# Altium integrated library LTC2602CMS8TR.IntLib: 1 symbol
Pins are listed as number, name and electrical type; pins without a type are passive.

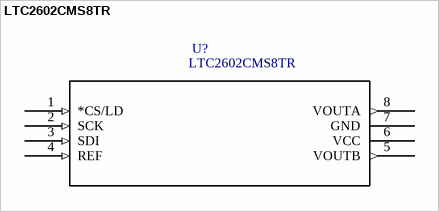
[diagram p0: symbol LTC2602CMS8TR]

## LTC2602CMS8TR
designator U?
Ic Dac 16bit Dual r-r Vout 8msop; MF: Linear Technology; MP: LTC2602CMS8#TR; Availability: Unavailable; Package: MSOP-8 Linear Technology; Price: None; Value: *
footprint MSOP-8_MS
pins: 1 *CS/LD (in), 2 SCK (in), 3 SDI (in), 4 REF (in), 5 VOUTB (out), 6 VCC (power), 7 GND (power), 8 VOUTA (out)